# EAGLE library part TPS852 (library CEDTv75)
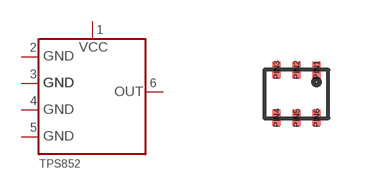
[diagram p26: symbol with the pads of SMD; footprint SMD]

Designator prefix -

## TPS852  [SMD]
PIN1  PIN1  pas
PIN2  PIN2  pas
PIN3  PIN3  pas
PIN4  PIN4  pas
PIN5  PIN5  pas
PIN6  PIN6  pas

## Footprint SMD (pad centres in mm)
smd 0.2 x 0.4: PIN1 0.5,0.6; PIN2 0,0.6; PIN3 -0.5,0.6; PIN4 -0.5,-0.6; PIN5 0,-0.6; PIN6 0.5,-0.6